# EAGLE library part MCP2515 (library EL_POTENCIA_LIBRERIA_VES2018)
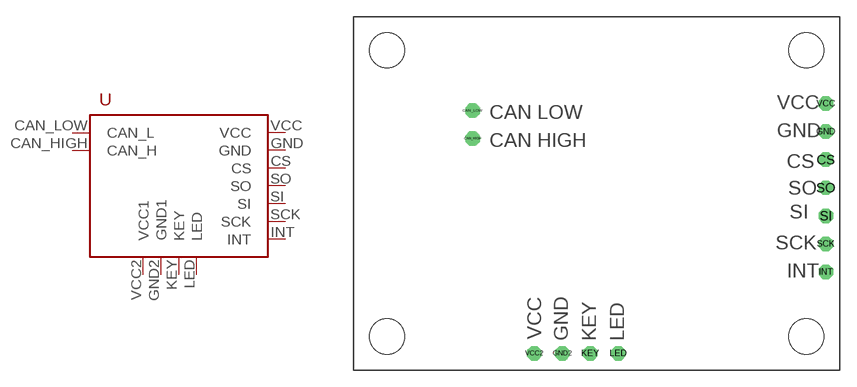
[diagram p0: symbol with the pads of MCP2515; footprint MCP2515]

Designator prefix -

## MCP2515  [MCP2515]
CAN_HIGH  CAN_H
CAN_LOW  CAN_L
CS  CS
GND  GND
GND2  GND1
INT  INT
KEY  KEY
LED  LED
SCK  SCK
SI  SI
SO  SO
VCC  VCC
VCC2  VCC1

## Footprint MCP2515 (pad centres in mm)
drill 0.8 octagon: CAN_HIGH -9.144,5.461; CAN_LOW -9.144,8.001; CS 22.86,3.556; GND 22.86,6.096; GND2 -1.016,-13.97; INT 22.86,-6.604; KEY 1.524,-13.97; LED 4.064,-13.97; SCK 22.86,-4.064; SI 22.86,-1.524; SO 22.86,1.016; VCC 22.86,8.636; VCC2 -3.556,-13.97
hole 3.2 at 21.082,-12.446
hole 3.2 at 21.082,13.462
hole 3.2 at -16.891,-12.446
hole 3.2 at -16.891,13.462